# Altium integrated library Gennum IF Amplifier.IntLib: 3 symbols
Pins are listed as number, name and electrical type; pins without a type are passive.

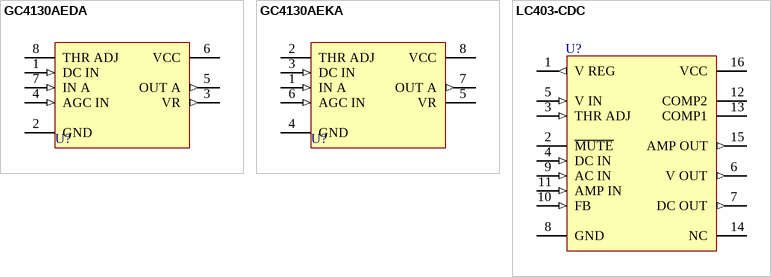
[diagram p0: symbols GC4130AEDA to LC403-CDC]

## GC4130AEDA
designator U?
Low Distortion AGC Amplifier; Published: 8-Jun-2000; LatestRevisionDate: 17-Jul-2002; LatestRevisionNote: Re-released for DXP Platform.; PackageVersion: Nov-1999; PackageReference: PDIP8; Publisher: Altium Limited; PackageDescription: DIP; 8 Leads; Row Spacing 7.62 mm; Pitch 2.54 mm; ComponentLink1Description: Manufacturer Link; ComponentLink1URL: http://www.gennum.com/index.html
footprint PDIP8 (DIP; 8 Leads; Row Spacing 7.62 mm; Pitch 2.54 mm)
pins: 1 DC IN (in), 2 GND (power), 3 VR (out), 4 AGC IN (in), 5 OUT A (out), 6 VCC (power), 7 IN A (in), 8 THR ADJ

## GC4130AEKA
designator U?
Low Distortion AGC Amplifier; Published: 8-Jun-2000; LatestRevisionDate: 13-Apr-2006; LatestRevisionNote: IPC-7351 Footprint Added.; PackageReference: SOIC8; Publisher: Altium Limited; PackageDescription: 8-Pin Small Outline Integrated Circuit 1.27 mm Pitch; Code_JEDEC: MS-012-AA; Code_IPC: SOIC127P600-8; ComponentLink1Description: Manufacturer Link; ComponentLink1URL: http://www.gennum.com/index.html
footprint SOIC8_N (SOIC, 8-Leads, Body 4.8x3.9mm, Pitch 1.27mm, IPC Medium Density)
footprint SOIC8_L (SOIC, 8-Leads, Body 4.8x3.9mm, Pitch 1.27mm, IPC High Density)
footprint SOIC8_M (SOIC, 8-Leads, Body 4.8x3.9mm, Pitch 1.27mm, IPC Low Density)
3D model SOIC8 (8-Pin Small Outline Integrated Circuit 1.27 mm Pitch)
pins: 1 IN A (in), 2 THR ADJ, 3 DC IN (in), 4 GND (power), 5 VR, 6 AGC IN (in), 7 OUT A (out), 8 VCC (power)

## LC403-CDC
designator U?
High Performance AGC Amplifier; Published: 8-Jun-2000; LatestRevisionDate: 04-Mar-2005; LatestRevisionNote: Stylized 3D Model Added.; PackageVersion: 1999; PackageReference: PDIP16; Publisher: Altium Limited; PackageDescription: DIP; 16 Leads; Row Spacing 7.62 mm; Pitch 2.54 mm; ComponentLink1Description: Manufacturer Link; ComponentLink1URL: http://www.gennum.com/index.html
footprint PDIP16 (DIP; 16 Leads; Row Spacing 7.62 mm; Pitch 2.54 mm)
3D model PDIP16 (DIP; 16 Leads; Row Spacing 7.62 mm; Pitch 2.54 mm)
pins: 1 V REG (out), 2 ~{MUTE}, 3 THR ADJ (in), 4 DC IN (in), 5 V IN (in), 6 V OUT (out), 7 DC OUT (out), 8 GND (power), 9 AC IN (in), 10 FB (in), 11 AMP IN (in), 12 COMP2, 13 COMP1, 14 NC, 15 AMP OUT (out), 16 VCC (power)